# Altium footprint library WR-TBL_Rising Cage Clamp_3.81mm.PcbLib: 26 footprints (part 2 of 2)
Each footprint in its own frame and in the unit in brackets; x right, y up, seen from the top. Pads: shape width x height; smd on the part's side, far side on the other; paste and mask are expansions set on the pad; w line width, h text height; cw(c..) or ccw(c..) is an arc to the next point about the centre after c.
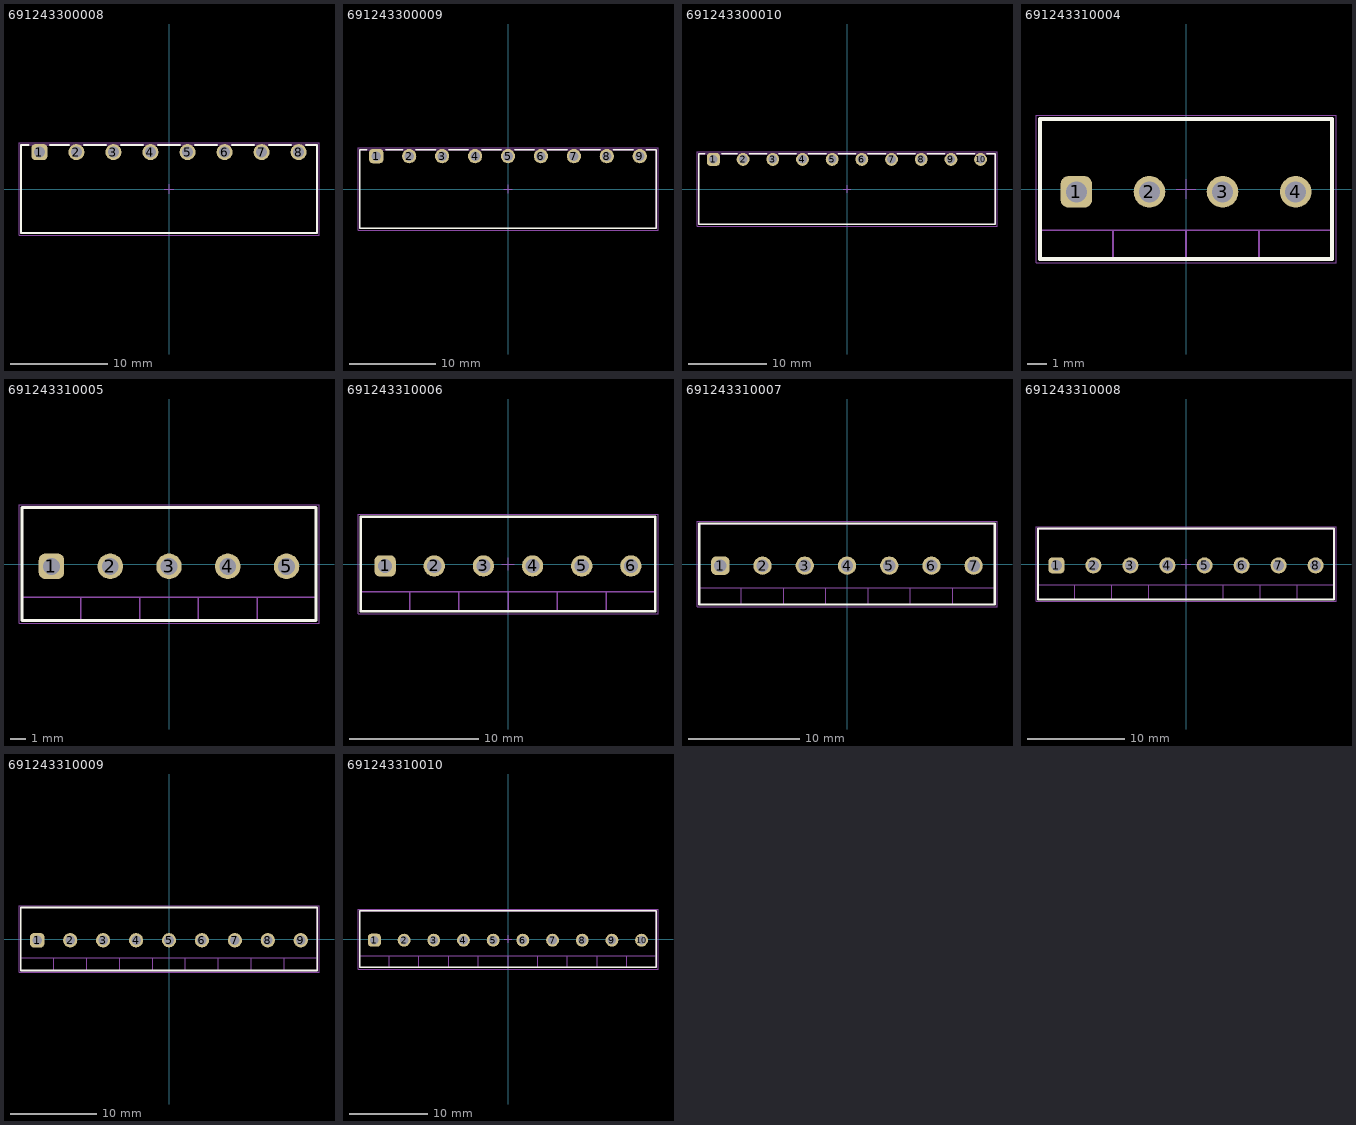
[diagram p1: the footprints below, top view; thin cyan lines are the x and y axes]

## 691243300008 [mm] "Serie 2433 - 3.81 mm _ 8 pins"
height 7.3
pads (8):
  rrect50% 1.65x1.65 hole 1.1: 1(-13.335,3.8)
  round 1.65 hole 1.1: 2(-9.525,3.8) 3(-5.715,3.8) 4(-1.905,3.8) 5(1.905,3.8) 6(5.715,3.8) 7(9.525,3.8) 8(13.335,3.8)
Top Overlay:
  lines w0.2: -14.44,4.55 -15.24,4.55 -15.24,-4.55 15.24,-4.55 15.24,4.55 14.1,4.55 ; -12.24,4.55 -10.29,4.55 ; -8.76,4.55 -6.49,4.55 ; -4.95,4.55 -2.68,4.55 ; -1.14,4.55 1.13,4.55 ; 2.67,4.55 4.94,4.55 ; 6.48,4.55 8.75,4.55 ; 10.29,4.55 12.56,4.55
Top Designator:
  text ".Designator" at -7.498,-0.5 h1.5
Top Component Outline:
  lines w0.1: -15.24,-4.55 15.24,-4.55 15.24,4.55 -15.24,4.55 -15.24,-4.55
Top 3D Body:
  lines w0.1: -15.24,-4.55 -15.24,4.55 15.24,4.55 15.24,-4.55 -15.24,-4.55
Top Courtyard:
  lines w0.05: -15.44,-4.75 15.44,-4.75 15.44,4.75 -15.44,4.75 -15.44,-4.75
Top Component Center:
  lines w0.05: -0.5,0 0.5,0 ; 0,-0.5 0,0.5
3D body "691243300008.stp": height 7.32, standoff -3.48, extent -15.22,-4.55 15.26,4.55

## 691243300009 [mm] "Serie 2433 - 3.81 mm _ 9 pins"
height 7.3
pads (9):
  rrect50% 1.65x1.65 hole 1.1: 1(-15.24,3.8)
  round 1.65 hole 1.1: 2(-11.43,3.8) 3(-7.62,3.8) 4(-3.81,3.8) 5(0,3.8) 6(3.81,3.8) 7(7.62,3.8) 8(11.43,3.8) 9(15.24,3.8)
Top Overlay:
  lines w0.2: -16.345,4.55 -17.145,4.55 -17.145,-4.55 17.145,-4.55 17.145,4.55 16.005,4.55 ; -14.145,4.55 -12.195,4.55 ; -10.665,4.55 -8.395,4.55 ; -6.855,4.55 -4.585,4.55 ; -3.045,4.55 -0.775,4.55 ; 0.765,4.55 3.035,4.55 ; 4.575,4.55 6.845,4.55 ; 8.385,4.55 10.655,4.55 ; 12.195,4.55 14.465,4.55
Top Designator:
  text ".Designator" at -7.498,-0.5 h1.5
Top Component Outline:
  lines w0.1: -17.145,-4.55 17.145,-4.55 17.145,4.55 -17.145,4.55 -17.145,-4.55
Top 3D Body:
  lines w0.1: -17.145,-4.55 -17.145,4.55 17.145,4.55 17.145,-4.55 -17.145,-4.55
Top Courtyard:
  lines w0.05: -17.345,-4.75 17.345,-4.75 17.345,4.75 -17.345,4.75 -17.345,-4.75
Top Component Center:
  lines w0.05: -0.5,0 0.5,0 ; 0,-0.5 0,0.5
3D body "691243300009.stp": height 7.32, standoff -3.48, extent -17.125,-4.55 17.165,4.55

## 691243300010 [mm] "Serie 2433 - 3.81 mm _ 10 pins"
height 7.3
pads (10):
  rrect50% 1.65x1.65 hole 1.1: 1(-17.145,3.8)
  round 1.65 hole 1.1: 2(-13.335,3.8) 3(-9.525,3.8) 4(-5.715,3.8) 5(-1.905,3.8) 6(1.905,3.8) 7(5.715,3.8) 8(9.525,3.8) 9(13.335,3.8) 10(17.145,3.8)
Top Overlay:
  lines w0.2: -18.25,4.55 -19.05,4.55 -19.05,-4.55 19.05,-4.55 19.05,4.55 17.91,4.55 ; -16.05,4.55 -14.1,4.55 ; -12.57,4.55 -10.3,4.55 ; -8.76,4.55 -6.49,4.55 ; -4.95,4.55 -2.68,4.55 ; -1.14,4.55 1.13,4.55 ; 2.67,4.55 4.94,4.55 ; 6.48,4.55 8.75,4.55 ; 10.29,4.55 12.56,4.55 ; 14.1,4.55 16.37,4.55
Top Designator:
  text ".Designator" at -7.498,-0.5 h1.5
Top Component Outline:
  lines w0.1: -19.05,-4.55 -19.05,4.55 19.05,4.55 19.05,-4.55 -19.05,-4.55
Top 3D Body:
  lines w0.1: -19.05,-4.55 19.05,-4.55 19.05,4.55 -19.05,4.55 -19.05,-4.55
Top Courtyard:
  lines w0.05: -19.25,-4.75 -19.25,4.75 19.25,4.75 19.25,-4.75 -19.25,-4.75
Top Component Center:
  lines w0.05: -0.5,0 0.5,0 ; 0,-0.5 0,0.5
3D body "691243300010.stp": height 7.32, standoff -3.48, extent -19.03,-4.55 19.07,4.55

## 691243310004 [mm] "Serie 2433 - 3.81 mm _ 4 pins"
height 9.1
pads (4):
  rrect50% 1.65x1.65 hole 1.1: 1(-5.715,-0.15)
  round 1.65 hole 1.1: 2(-1.905,-0.15) 3(1.905,-0.15) 4(5.715,-0.15)
Top Overlay:
  lines w0.2: -7.62,-3.65 -7.62,3.65 7.62,3.65 7.62,-3.65 -7.62,-3.65
Top Designator:
  text ".Designator" at -7.498,-0.5 h1.5
Top Component Outline:
  lines w0.1: -7.62,-2.15 7.62,-2.15 ; -3.81,-3.65 -3.81,-2.15 ; 0,-3.65 0,-2.15 ; 3.81,-3.65 3.81,-2.15 ; -7.62,-3.65 7.62,-3.65 7.62,3.65 -7.62,3.65 -7.62,-3.65
Top 3D Body:
  lines w0.1: -7.62,-2.15 7.62,-2.15 ; -3.81,-3.65 -3.81,-2.15 ; 0,-3.65 0,-2.15 ; 3.81,-3.65 3.81,-2.15 ; -7.62,-3.65 -7.62,3.65 7.62,3.65 7.62,-3.65 -7.62,-3.65
Top Courtyard:
  lines w0.05: -7.82,-3.85 -7.82,3.85 7.82,3.85 7.82,-3.85 -7.82,-3.85
Top Component Center:
  lines w0.05: -0.5,0 0.5,0 ; 0,-0.5 0,0.5
3D body "691243310004.stp": height 9.15, standoff -3.45, extent -7.62,-3.65 7.62,3.65

## 691243310005 [mm] "Serie 2433 - 3.81 mm _ 5 pins"
height 9.1
pads (5):
  rrect50% 1.65x1.65 hole 1.1: 1(-7.62,-0.15)
  round 1.65 hole 1.1: 2(-3.81,-0.15) 3(0,-0.15) 4(3.81,-0.15) 5(7.62,-0.15)
Top Overlay:
  lines w0.2: -9.525,-3.65 -9.525,3.65 9.525,3.65 9.525,-3.65 -9.525,-3.65
Top Designator:
  text ".Designator" at -7.498,-0.5 h1.5
Top Component Outline:
  lines w0.1: -9.525,-2.15 9.525,-2.15 ; -5.715,-3.65 -5.715,-2.15 ; -1.905,-3.65 -1.905,-2.15 ; 1.905,-3.65 1.905,-2.15 ; 5.715,-3.65 5.715,-2.15 ; -9.525,-3.65 9.525,-3.65 9.525,3.65 -9.525,3.65 -9.525,-3.65
Top 3D Body:
  lines w0.1: -9.525,-2.15 9.525,-2.15 ; -5.715,-3.65 -5.715,-2.15 ; -1.905,-3.65 -1.905,-2.15 ; 1.905,-3.65 1.905,-2.15 ; 5.715,-3.65 5.715,-2.15 ; -9.525,-3.65 -9.525,3.65 9.525,3.65 9.525,-3.65 -9.525,-3.65
Top Courtyard:
  lines w0.05: -9.725,-3.85 -9.725,3.85 9.725,3.85 9.725,-3.85 -9.725,-3.85
Top Component Center:
  lines w0.05: -0.5,0 0.5,0 ; 0,-0.5 0,0.5
3D body "691243310005.stp": height 9.15, standoff -3.45, extent -9.525,-3.65 9.525,3.65

## 691243310006 [mm] "Serie 2433 - 3.81 mm _ 6 pins"
height 9.1
pads (6):
  rrect50% 1.65x1.65 hole 1.1: 1(-9.525,-0.15)
  round 1.65 hole 1.1: 2(-5.715,-0.15) 3(-1.905,-0.15) 4(1.905,-0.15) 5(5.715,-0.15) 6(9.525,-0.15)
Top Overlay:
  lines w0.2: -11.43,-3.65 11.43,-3.65 11.43,3.65 -11.43,3.65 -11.43,-3.65
Top Designator:
  text ".Designator" at -7.498,-0.5 h1.5
Top Component Outline:
  lines w0.1: -11.43,-2.15 11.43,-2.15 ; -7.62,-3.65 -7.62,-2.15 ; -3.81,-3.65 -3.81,-2.15 ; 0,-3.65 0,-2.15 ; 3.81,-3.65 3.81,-2.15 ; 7.62,-3.65 7.62,-2.15 ; -11.43,-3.65 -11.43,3.65 11.43,3.65 11.43,-3.65 -11.43,-3.65
Top 3D Body:
  lines w0.1: -11.43,-2.15 11.43,-2.15 ; -7.62,-3.65 -7.62,-2.15 ; -3.81,-3.65 -3.81,-2.15 ; 0,-3.65 0,-2.15 ; 3.81,-3.65 3.81,-2.15 ; 7.62,-3.65 7.62,-2.15 ; -11.43,-3.65 11.43,-3.65 11.43,3.65 -11.43,3.65 -11.43,-3.65
Top Courtyard:
  lines w0.05: -11.63,-3.85 11.63,-3.85 11.63,3.85 -11.63,3.85 -11.63,-3.85
Top Component Center:
  lines w0.05: -0.5,0 0.5,0 ; 0,-0.5 0,0.5
3D body "691243310006.stp": height 9.15, standoff -3.45, extent -11.43,-3.65 11.43,3.65

## 691243310007 [mm] "Serie 2433 - 3.81 mm _ 7 pins"
height 9.1
pads (7):
  rrect50% 1.65x1.65 hole 1.1: 1(-11.43,-0.15)
  round 1.65 hole 1.1: 2(-7.62,-0.15) 3(-3.81,-0.15) 4(0,-0.15) 5(3.81,-0.15) 6(7.62,-0.15) 7(11.43,-0.15)
Top Overlay:
  lines w0.2: -13.335,-3.65 13.335,-3.65 13.335,3.65 -13.335,3.65 -13.335,-3.65
Top Designator:
  text ".Designator" at -7.498,-0.5 h1.5
Top Component Outline:
  lines w0.1: -13.335,-2.15 13.335,-2.15 ; -9.525,-3.65 -9.525,-2.15 ; -5.715,-3.65 -5.715,-2.15 ; -1.905,-3.65 -1.905,-2.15 ; 1.905,-3.65 1.905,-2.15 ; 5.715,-3.65 5.715,-2.15 ; 9.525,-3.65 9.525,-2.15 ; -13.335,-3.65 -13.335,3.65 13.335,3.65 13.335,-3.65 -13.335,-3.65
Top 3D Body:
  lines w0.1: -13.335,-2.15 13.335,-2.15 ; -9.525,-3.65 -9.525,-2.15 ; -5.715,-3.65 -5.715,-2.15 ; -1.905,-3.65 -1.905,-2.15 ; 1.905,-3.65 1.905,-2.15 ; 5.715,-3.65 5.715,-2.15 ; 9.525,-3.65 9.525,-2.15 ; -13.335,-3.65 13.335,-3.65 13.335,3.65 -13.335,3.65 -13.335,-3.65
Top Courtyard:
  lines w0.05: -13.535,-3.85 13.535,-3.85 13.535,3.85 -13.535,3.85 -13.535,-3.85
Top Component Center:
  lines w0.05: -0.5,0 0.5,0 ; 0,-0.5 0,0.5
3D body "691243310007.stp": height 9.15, standoff -3.45, extent -13.335,-3.65 13.335,3.65

## 691243310008 [mm] "Serie 2433 - 3.81 mm _ 8 pins"
height 9.1
pads (8):
  rrect50% 1.65x1.65 hole 1.1: 1(-13.335,-0.15)
  round 1.65 hole 1.1: 2(-9.525,-0.15) 3(-5.715,-0.15) 4(-1.905,-0.15) 5(1.905,-0.15) 6(5.715,-0.15) 7(9.525,-0.15) 8(13.335,-0.15)
Top Overlay:
  lines w0.2: -15.24,-3.65 -15.24,3.65 15.24,3.65 15.24,-3.65 -15.24,-3.65
Top Designator:
  text ".Designator" at -7.498,-0.5 h1.5
Top Component Outline:
  lines w0.1: -15.24,-2.15 15.24,-2.15 ; -11.43,-3.65 -11.43,-2.15 ; -7.62,-3.65 -7.62,-2.15 ; -3.81,-3.65 -3.81,-2.15 ; 0,-3.65 0,-2.15 ; 3.81,-3.65 3.81,-2.15 ; 7.62,-3.65 7.62,-2.15 ; 11.43,-3.65 11.43,-2.15 ; -15.24,-3.65 15.24,-3.65 15.24,3.65 -15.24,3.65 -15.24,-3.65
Top 3D Body:
  lines w0.1: -15.24,-2.15 15.24,-2.15 ; -11.43,-3.65 -11.43,-2.15 ; -7.62,-3.65 -7.62,-2.15 ; -3.81,-3.65 -3.81,-2.15 ; 0,-3.65 0,-2.15 ; 3.81,-3.65 3.81,-2.15 ; 7.62,-3.65 7.62,-2.15 ; 11.43,-3.65 11.43,-2.15 ; -15.24,-3.65 -15.24,3.65 15.24,3.65 15.24,-3.65 -15.24,-3.65
Top Courtyard:
  lines w0.05: -15.44,-3.85 -15.44,3.85 15.44,3.85 15.44,-3.85 -15.44,-3.85
Top Component Center:
  lines w0.05: -0.5,0 0.5,0 ; 0,-0.5 0,0.5
3D body "691243310008.stp": height 9.15, standoff -3.45, extent -15.24,-3.65 15.24,3.65

## 691243310009 [mm] "Serie 2433 - 3.81 mm _ 9 pins"
height 9.1
pads (9):
  rrect50% 1.65x1.65 hole 1.1: 1(-15.24,-0.15)
  round 1.65 hole 1.1: 2(-11.43,-0.15) 3(-7.62,-0.15) 4(-3.81,-0.15) 5(0,-0.15) 6(3.81,-0.15) 7(7.62,-0.15) 8(11.43,-0.15) 9(15.24,-0.15)
Top Overlay:
  lines w0.2: -17.145,-3.65 17.145,-3.65 17.145,3.65 -17.145,3.65 -17.145,-3.65
Top Designator:
  text ".Designator" at -7.498,-0.5 h1.5
Top Component Outline:
  lines w0.1: -17.145,-2.15 17.145,-2.15 ; -13.335,-3.65 -13.335,-2.15 ; -9.525,-3.65 -9.525,-2.15 ; -5.715,-3.65 -5.715,-2.15 ; -1.905,-3.65 -1.905,-2.15 ; 1.905,-3.65 1.905,-2.15 ; 5.715,-3.65 5.715,-2.15 ; 9.525,-3.65 9.525,-2.15 ; 13.335,-3.65 13.335,-2.15 ; -17.145,-3.65 -17.145,3.65 17.145,3.65 17.145,-3.65 -17.145,-3.65
Top 3D Body:
  lines w0.1: -17.145,-2.15 17.145,-2.15 ; -13.335,-3.65 -13.335,-2.15 ; -9.525,-3.65 -9.525,-2.15 ; -5.715,-3.65 -5.715,-2.15 ; -1.905,-3.65 -1.905,-2.15 ; 1.905,-3.65 1.905,-2.15 ; 5.715,-3.65 5.715,-2.15 ; 9.525,-3.65 9.525,-2.15 ; 13.335,-3.65 13.335,-2.15 ; -17.145,-3.65 17.145,-3.65 17.145,3.65 -17.145,3.65 -17.145,-3.65
Top Courtyard:
  lines w0.05: -17.345,-3.85 17.345,-3.85 17.345,3.85 -17.345,3.85 -17.345,-3.85
Top Component Center:
  lines w0.05: -0.5,0 0.5,0 ; 0,-0.5 0,0.5
3D body "691243310009.stp": height 9.15, standoff -3.45, extent -17.145,-3.65 17.145,3.65

## 691243310010 [mm] "Serie 2433 - 3.81 mm _ 10 pins"
height 9.1
pads (10):
  rrect50% 1.65x1.65 hole 1.1: 1(-17.145,-0.15)
  round 1.65 hole 1.1: 2(-13.335,-0.15) 3(-9.525,-0.15) 4(-5.715,-0.15) 5(-1.905,-0.15) 6(1.905,-0.15) 7(5.715,-0.15) 8(9.525,-0.15) 9(13.335,-0.15) 10(17.145,-0.15)
Top Overlay:
  lines w0.2: -19.05,-3.65 19.05,-3.65 19.05,3.65 -19.05,3.65 -19.05,-3.65
Top Designator:
  text ".Designator" at -7.498,-0.5 h1.5
Top Component Outline:
  lines w0.1: -19.05,-2.15 19.05,-2.15 ; -15.24,-3.65 -15.24,-2.15 ; -11.43,-3.65 -11.43,-2.15 ; -7.62,-3.65 -7.62,-2.15 ; -3.81,-3.65 -3.81,-2.15 ; 0,-3.65 0,-2.15 ; 3.81,-3.65 3.81,-2.15 ; 7.62,-3.65 7.62,-2.15 ; 11.43,-3.65 11.43,-2.15 ; 15.24,-3.65 15.24,-2.15 ; -19.05,-3.65 -19.05,3.65 19.05,3.65 19.05,-3.65 -19.05,-3.65
Top 3D Body:
  lines w0.1: -19.05,-2.15 19.05,-2.15 ; -15.24,-3.65 -15.24,-2.15 ; -11.43,-3.65 -11.43,-2.15 ; -7.62,-3.65 -7.62,-2.15 ; -3.81,-3.65 -3.81,-2.15 ; 0,-3.65 0,-2.15 ; 3.81,-3.65 3.81,-2.15 ; 7.62,-3.65 7.62,-2.15 ; 11.43,-3.65 11.43,-2.15 ; 15.24,-3.65 15.24,-2.15 ; -19.05,-3.65 19.05,-3.65 19.05,3.65 -19.05,3.65 -19.05,-3.65
Top Courtyard:
  lines w0.05: -19.25,-3.85 19.25,-3.85 19.25,3.85 -19.25,3.85 -19.25,-3.85
Top Component Center:
  lines w0.05: -0.5,0 0.5,0 ; 0,-0.5 0,0.5
3D body "691243310010.stp": height 9.15, standoff -3.45, extent -19.05,-3.65 19.05,3.65